# EAGLE library part EC11E18244AU (library EC11E18244AU)
Alps 18 Pulse Incremental Mechanical Rotary Encoder with a 6 mm Flat Shaft (Not Indexed), Through Hole 10mA 5V DC Source: Datasheet <https://tech.alpsalpine.com/cms.media/product_catalog_ec_01_ec11e_en_611f078659.pdf>
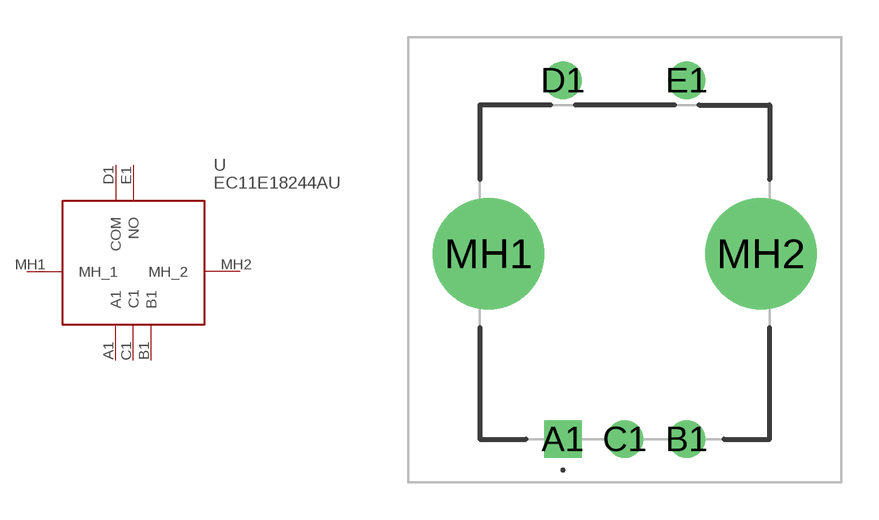
[diagram p0: symbol with the pads of EC11E18244AU; footprint EC11E18244AU]

Designator prefix U

## EC11E18244AU (Description: Alps 18 Pulse Incremental Mechanical Rotary Encoder with a 6 mm Flat Shaft (Not Indexed), Through Hole 10mA 5V DC; Height: 24.5mm; Manufacturer_Name: ALPS Electric; Manufacturer_Part_Number: EC11E18244AU; Mouser_Part_Number: 688-EC11E18244AU; Mouser_Price-Stock: https://www.mouser.co.uk/ProductDetail/Alps-Alpine/EC11E18244AU?qs=YMSFtX0bdJDrS4vspzwcPg%3D%3D)  [EC11E18244AU]
A1  A1
B1  B1
C1  C1
D1  COM
E1  NO
MH1  MH_1
MH2  MH_2

## Footprint EC11E18244AU (pad centres in mm)
EC11E18244AU-4
drill 1 pad 1.5 square: A1 0,0
drill 1 pad 1.5: B1 5,0; C1 2.5,0; D1 0,14.5; E1 5,14.5
drill 3 pad 4.5: MH1 -3,7.5; MH2 8,7.5